# Altium schematic symbol library special.SchLib: 25 symbols
Pins are listed as number, name and electrical type; pins without a type are passive.

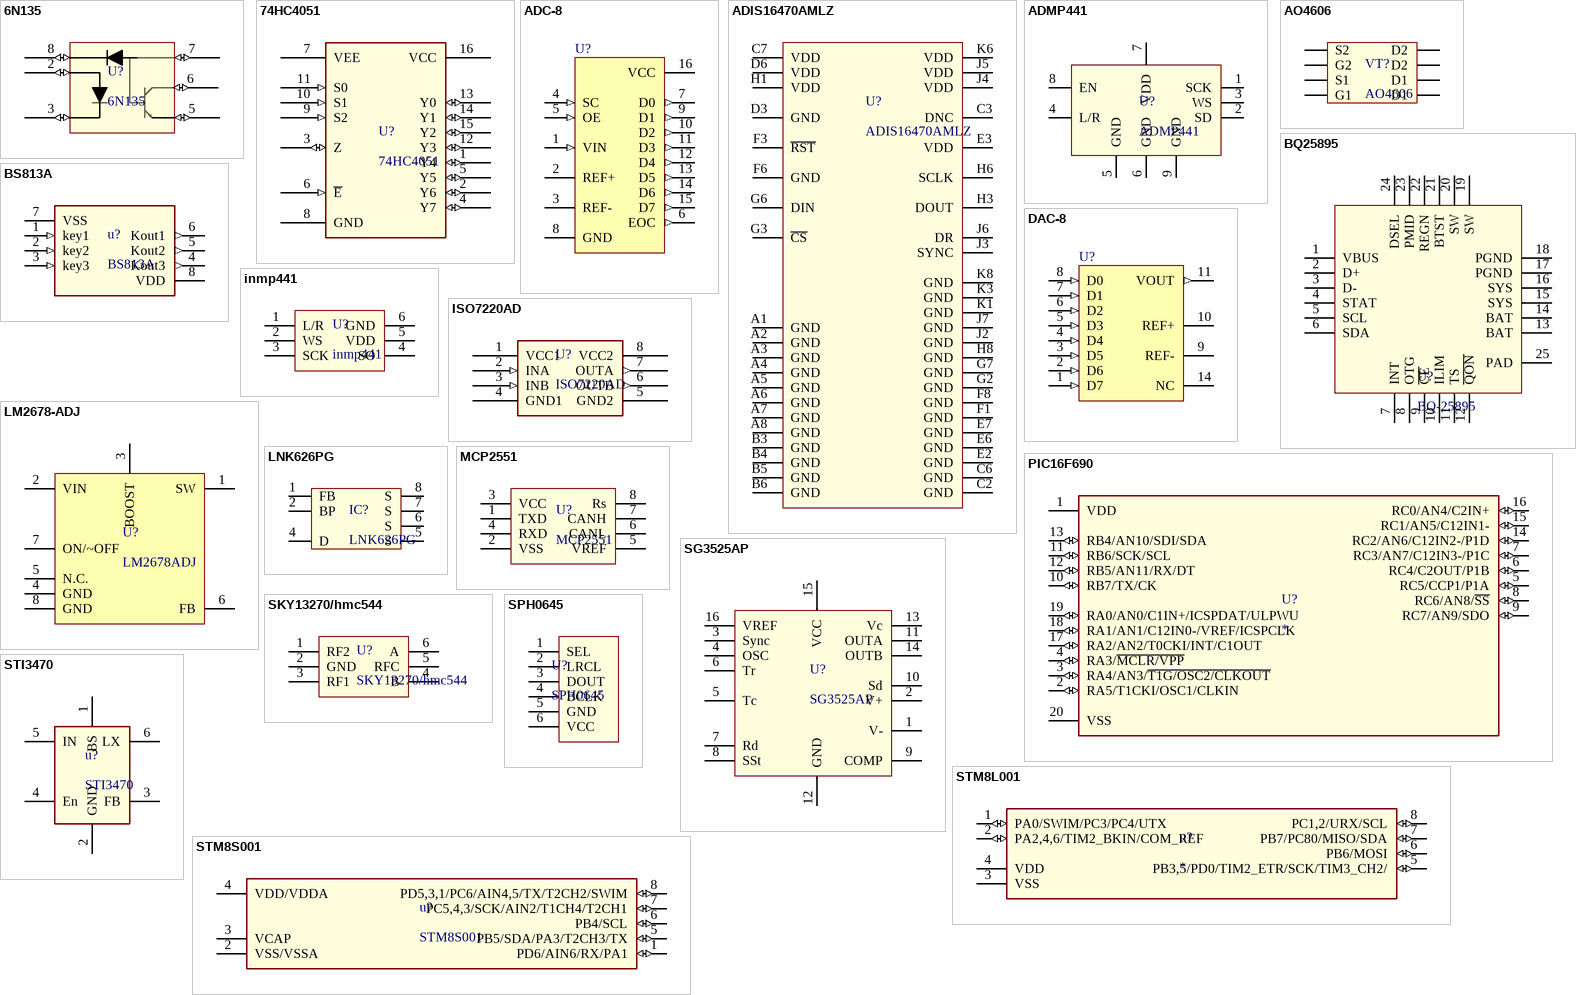
[diagram p0: symbols 6N135 to STM8S001]

## 6N135
designator U?
footprint 6n136 (OPTOTRANSISTOR-FAST)
pins: 1 N/C (out) hidden, 2 +D (io), 3 -D (io), 4 NC (io) hidden, 5 GND (io), 6 VO (io), 7 VB (io), 8 VCC (io)

## 74HC4051
designator U?
74HC4051D
footprint SO-16
pins: 1 Y4 (io), 2 Y6 (io), 3 Z (io), 4 Y7 (io), 5 Y5 (io), 6 ~{E} (in), 7 VEE (power), 8 GND (power), 9 S2 (in), 10 S1 (in), 11 S0 (in), 12 Y3 (io), 13 Y0 (io), 14 Y1 (io), 15 Y2 (io), 16 VCC (power)

## ADC-8
designator U?
Generic 8-Bit A/D Converter; Published: 8-Jun-2000; LatestRevisionDate: 29-May-2009; LatestRevisionNote: IPC-7351 Footprint Added.; PackageVersion: Mar-2002; PackageReference: SOT403-1; Publisher: Altium Limited; PackageDescription: 16-Pin Thin Small Outline Package 0.65 mm Pitch; Code_JEDEC: MO-153
footprint SOT403-1_N (TSOP, 16-Leads, Body 5x4.4mm, Pitch 0.65mm, IPC Medium Density)
footprint SOT403-1_L (TSOP, 16-Leads, Body 5x4.4mm, Pitch 0.65mm, IPC High Density)
footprint SOT403-1_M (TSOP, 16-Leads, Body 5x4.4mm, Pitch 0.65mm, IPC Low Density)
simulation model ADC8 (SIMCODE)
pins: 1 VIN (in), 2 REF+, 3 REF-, 4 SC (in), 5 OE (in), 6 EOC (out), 7 D0 (out), 8 GND (power), 9 D1 (out), 10 D2 (out), 11 D3 (out), 12 D4 (out), 13 D5 (out), 14 D6 (out), 15 D7 (out), 16 VCC (power)

## ADIS16470AMLZ
designator U?
Wide Dynamic Range, Miniature MEMs IMU
footprint ADIS16470 (Footprint not found)
pins: A1 GND, A2 GND, A3 GND, A4 GND, A5 GND, A6 GND, A7 GND, A8 GND, B3 GND, B4 GND, B5 GND, B6 GND, C2 GND, C3 DNC, C6 GND, C7 VDD, D3 GND, D6 VDD, E2 GND, E3 VDD, E6 GND, E7 GND, F1 GND, F3 ~{RST}, F6 GND, F8 GND, G2 GND, G3 ~{CS}, G6 DIN, G7 GND, H1 VDD, H3 DOUT, H6 SCLK, H8 GND, J2 GND, J3 SYNC, J4 VDD, J5 VDD, J6 DR, J7 GND, K1 GND, K3 GND, K6 VDD, K8 GND

## ADMP441
designator U?
MEMS microphone with i2s connection
footprint ADMP441 (Footprint not found)
pins: 1 SCK (power), 2 SD (power), 3 WS (power), 4 L/R (power), 5 GND (power), 6 GND (power), 7 VDD (power), 8 EN (power), 9 GND (power)

## AO4606
designator VT?
mosfet N-channel
footprint SO-8
pins: 1 S2 (power), 2 G2 (power), 3 S1 (power), 4 G1 (power), 5 D1 (power), 6 D1 (power), 7 D2 (power), 8 D2 (power)

## BQ25895
designator U?, comment BQ-25895
battry mgt with path mgt ic 5A
pins: 1 VBUS, 2 D+, 3 D-, 4 STAT, 5 SCL, 6 SDA, 7 INT, 8 OTG, 9 ~{CE}, 10 ILIM, 11 TS, 12 ~{QON}, 13 BAT, 14 BAT, 15 SYS, 16 SYS, 17 PGND, 18 PGND, 19 SW, 20 SW, 21 BTST, 22 REGN, 23 PMID, 24 DSEL, 25 PAD

## BS813A
designator u?
footprint SOP8 (Small Outline; 8 Leads; Body Width 4.3 mm; Pitch 1.27 mm)
pins: 1 key1 (in), 2 key2 (in), 3 key3 (in), 4 Kout3 (out), 5 Kout2 (out), 6 Kout1 (out), 7 VSS (power), 8 VDD (power)

## DAC-8
designator U?
Generic 8-Bit D/A Converter; Published: 8-Jun-2000; LatestRevisionDate: 29-May-2009; LatestRevisionNote: IPC-7351 Footprint Added.; PackageVersion: Mar-2002; PackageReference: SOT402-1; Publisher: Altium Limited; PackageDescription: 14-Pin Thin Small Outline Package 0.65 mm Pitch; Code_JEDEC: MO-153
footprint SOT402-1_N (TSOP, 14-Leads, Body 5x4.4mm, Pitch 0.65mm, IPC Medium Density)
footprint SOT402-1_L (TSOP, 14-Leads, Body 5x4.4mm, Pitch 0.65mm, IPC High Density)
footprint SOT402-1_M (TSOP, 14-Leads, Body 5x4.4mm, Pitch 0.65mm, IPC Low Density)
simulation model DAC8 (SIMCODE)
pins: 1 D7 (in), 2 D6 (in), 3 D5 (in), 4 D4 (in), 5 D3 (in), 6 D2 (in), 7 D1 (in), 8 D0 (in), 9 REF-, 10 REF+, 11 VOUT (out), 12 GND (power) hidden to GND, 13 VCC (power) hidden to VCC, 14 NC

## inmp441
designator U?
mems microphone with dighital I2S
footprint inmpModule (Footprint not found)
pins: 1 L/R, 2 WS, 3 SCK, 4 SO, 5 VDD, 6 GND

## ISO7220AD
designator U?
footprint SO-8
pins: 1 VCC1 (power), 2 INA (in), 3 INB (in), 4 GND1 (power), 5 GND2 (power), 6 OUTB (out), 7 OUTA (out), 8 VCC2 (power)

## LM2678-ADJ
designator U?, comment LM2678ADJ
footprint DDPAK (Footprint not found)
pins: 1 SW (power), 2 VIN (power), 3 BOOST (power), 4 GND (power), 5 N.C. (power), 6 FB (power), 7 ON/~OFF (power), 8 GND (power)

## LNK626PG
designator IC?
Off-line Switcher
footprint SO-8
pins: 1 FB (power), 2 BP (power), 4 D (power), 5 S (power), 6 S (power), 7 S (power), 8 S (power)

## MCP2551
designator U?
CAN BUS IC 5V
footprint SO-8
pins: 1 TXD, 2 VSS, 3 VCC, 4 RXD, 5 VREF, 6 CANL, 7 CANH, 8 Rs

## PIC16F690
designator U?
footprint SSOP_20 (SOP, 20-Leads, Body 7.3x5.3mm (max), Pitch 0.65mm, IPC Medium Density)
pins: 1 VDD (power), 2 RA5/T1CKI/OSC1/CLKIN (io), 3 RA4/AN3/~{T1G/OSC2/CLKOUT} (io), 4 RA3/~{MCLR/VPP} (io), 5 RC5/CCP1/P1A (io), 6 RC4/C2OUT/P1B (io), 7 RC3/AN7/C12IN3-/P1C (io), 8 RC6/AN8/~{SS} (io), 9 RC7/AN9/SDO (io), 10 RB7/TX/CK (io), 11 RB6/SCK/SCL (io), 12 RB5/AN11/RX/DT (io), 13 RB4/AN10/SDI/SDA (io), 14 RC2/AN6/C12IN2-/P1D (io), 15 RC1/AN5/C12IN1- (io), 16 RC0/AN4/C2IN+ (io), 17 RA2/AN2/T0CKI/INT/C1OUT (io), 18 RA1/AN1/C12IN0-/VREF/ICSPCLK (io), 19 RA0/AN0/C1IN+/ICSPDAT/ULPWU (io), 20 VSS (power)

## SG3525AP
designator U?
pulse with control IC
footprint SO-16
pins: 1 V- (power), 2 V+ (power), 3 Sync (power), 4 OSC (power), 5 Tc (power), 6 Tr (power), 7 Rd (power), 8 SSt (power), 9 COMP (power), 10 Sd (power), 11 OUTA (power), 12 GND (power), 13 Vc (power), 14 OUTB (power), 15 VCC (power), 16 VREF (power)

## SKY13270/hmc544
designator U?
RF Switch
footprint SOT-23-6L
pins: 1 RF2, 2 GND, 3 RF1, 4 B, 5 RFC, 6 A

## SPH0645
designator U?
MEMS microphone with Digital I2S
footprint HDR_1X06
pins: 1 SEL, 2 LRCL, 3 DOUT, 4 BCLK, 5 GND, 6 VCC

## STI3470
designator u?
footprint SOT-23-6L
pins: 1 BS (power), 2 GND (power), 3 FB (power), 4 En (power), 5 IN (power), 6 LX (power)

## STM8L001
designator u?
pins: 1 PA0/SWIM/PC3/PC4/UTX (io), 2 PA2,4,6/TIM2_BKIN/COM_REF (io), 3 VSS (power), 4 VDD (power), 5 PB3,5/PD0/TIM2_ETR/SCK/TIM3_CH2/ (io), 6 PB6/MOSI (io), 7 PB7/PC80/MISO/SDA (io), 8 PC1,2/URX/SCL (io)

## STM8S001
designator u?
STM8S001j3
footprint SO-8
pins: 1 PD6/AIN6/RX/PA1 (io), 2 VSS/VSSA (power), 3 VCAP (power), 4 VDD/VDDA (power), 5 PB5/SDA/PA3/T2CH3/TX (io), 6 PB4/SCL (io), 7 PC5,4,3/SCK/AIN2/T1CH4/T2CH1 (io), 8 PD5,3,1/PC6/AIN4,5/TX/T2CH2/SWIM (io)

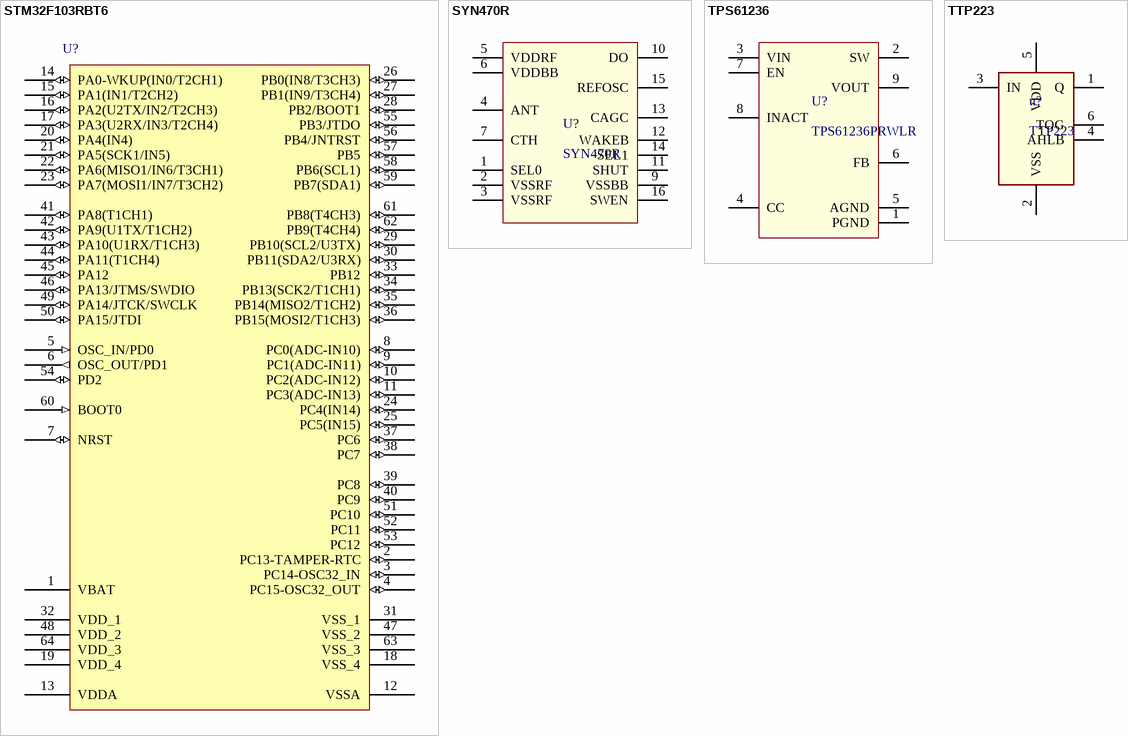
[diagram p1: symbols STM32F103RBT6 to TTP223]

## STM32F103RBT6
designator U?
STM32 ARM-based 32-bit MCU with 128 Kbytes Flash, 64-pin LQFP, Industrial Temperature; Published: 30-May-2008; DatasheetVersion: rev6, Mar-2008; PackageVersion: Mar-2008; PackageReference: LQFP64; Publisher: Altium Limited; PackageDescription: 64-Pin Low-Profile Quad Flat Pack, 10 x 10 mm Body, 0.5 mm Pitch (LQFP64); ComponentLink1Description: Manufacturer Link; ComponentLink1URL: www.st.com/stm32; ComponentLink2Description: Datasheet; ComponentLink2URL: http://www.st.com/stonline/products/literature/ds/13587.pdf
footprint LQFP64_N (Thin QFP, 64-Leads, Body 10x10mm, Pitch 0.5mm, IPC Medium Density)
footprint LQFP64_L (Thin QFP, 64-Leads, Body 10x10mm, Pitch 0.5mm, IPC High Density)
footprint LQFP64_M (Thin QFP, 64-Leads, Body 10x10mm, Pitch 0.5mm, IPC Low Density)
pins: 1 VBAT (power), 2 PC13-TAMPER-RTC (io), 3 PC14-OSC32_IN (io), 4 PC15-OSC32_OUT (io), 5 OSC_IN/PD0 (in), 6 OSC_OUT/PD1 (out), 7 NRST (io), 8 PC0(ADC-IN10) (io), 9 PC1(ADC-IN11) (io), 10 PC2(ADC-IN12) (io), 11 PC3(ADC-IN13) (io), 12 VSSA (power), 13 VDDA (power), 14 PA0-WKUP(IN0/T2CH1) (io), 15 PA1(IN1/T2CH2) (io), 16 PA2(U2TX/IN2/T2CH3) (io), 17 PA3(U2RX/IN3/T2CH4) (io), 18 VSS_4 (power), 19 VDD_4 (power), 20 PA4(IN4) (io), 21 PA5(SCK1/IN5) (io), 22 PA6(MISO1/IN6/T3CH1) (io), 23 PA7(MOSI1/IN7/T3CH2) (io), 24 PC4(IN14) (io), 25 PC5(IN15) (io), 26 PB0(IN8/T3CH3) (io), 27 PB1(IN9/T3CH4) (io), 28 PB2/BOOT1 (io), 29 PB10(SCL2/U3TX) (io), 30 PB11(SDA2/U3RX) (io), 31 VSS_1 (power), 32 VDD_1 (power), 33 PB12 (io), 34 PB13(SCK2/T1CH1) (io), 35 PB14(MISO2/T1CH2) (io), 36 PB15(MOSI2/T1CH3) (io), 37 PC6 (io), 38 PC7 (io), 39 PC8 (io), 40 PC9 (io), 41 PA8(T1CH1) (io), 42 PA9(U1TX/T1CH2) (io), 43 PA10(U1RX/T1CH3) (io), 44 PA11(T1CH4) (io), 45 PA12 (io), 46 PA13/JTMS/SWDIO (io), 47 VSS_2 (power), 48 VDD_2 (power), 49 PA14/JTCK/SWCLK (io), 50 PA15/JTDI (io), 51 PC10 (io), 52 PC11 (io), 53 PC12 (io), 54 PD2 (io), 55 PB3/JTDO (io), 56 PB4/JNTRST (io), 57 PB5 (io), 58 PB6(SCL1) (io), 59 PB7(SDA1) (io), 60 BOOT0 (in), 61 PB8(T4CH3) (io), 62 PB9(T4CH4) (io), 63 VSS_3 (power), 64 VDD_3 (power)

## SYN470R
designator U?
ASK RF IC
footprint SO-16
pins: 1 SEL0, 2 VSSRF, 3 VSSRF, 4 ANT, 5 VDDRF, 6 VDDBB, 7 CTH, 8 NC hidden, 9 VSSBB, 10 DO, 11 SHUT, 12 WAKEB, 13 CAGC, 14 SEL1, 15 REFOSC, 16 SWEN

## TPS61236
designator U?, comment TPS61236PRWLR
Step-UP regulator 3.5A 14mOHM
pins: 1 PGND, 2 SW, 3 VIN, 4 CC, 5 AGND, 6 FB, 7 EN, 8 INACT, 9 VOUT

## TTP223
designator u?
footprint SOT-23-6L
pins: 1 Q (power), 2 VSS (power), 3 IN (power), 4 AHLB (power), 5 VDD (power), 6 TOG (power)